# Altium integrated library Rectangular Connectors - Headers, Male Pins.IntLib: 13 symbols
Pins are listed as number, name and electrical type; pins without a type are passive.

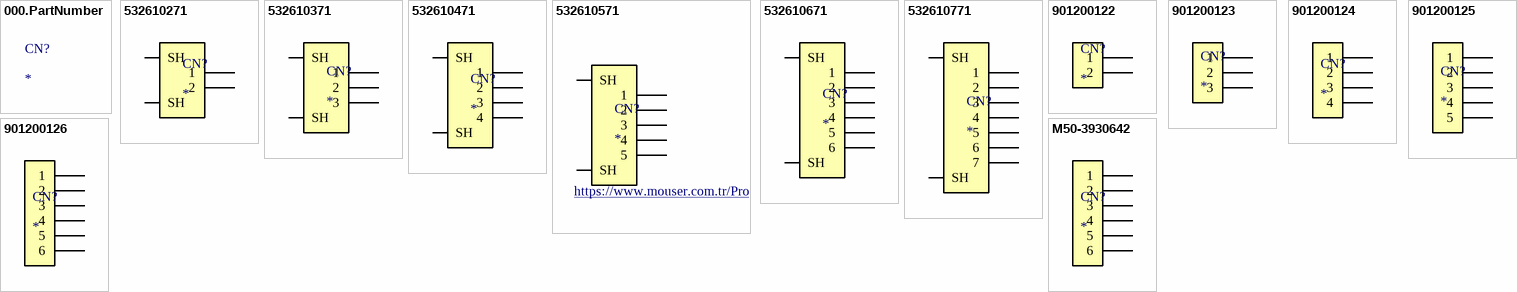
[diagram p0: symbols 000.PartNumber to M50-3930642]

## 000.PartNumber
designator CN?
Digikey Description; Manufacturer: *; Series: *; Package: *; Connector Type: *; Contact Type: *; Pitch - Mating: *; Number of Positions: *; Number of Rows: *; Row Spacing - Mating: *; Number of Positions Loaded: *; Style: *; Shrouding: *; Mounting Type: *; Termination: *; Fastening Type: *; Contact Length - Mating: *; Contact Length - Post: *; Overall Contact Length: *; Insulation Height: *; Contact Shape: *; Contact Finish - Mating: *; Contact Finish Thickness - Mating: *; Contact Finish - Post: *; Contact Material: *; Insulation Material: *; Features: *; Operating Temperature: *; Ingress Protection: *; Material Flammability Rating: *; Insulation Color: *; Current Rating (Amps): *; Voltage Rating: *; Mated Stacking Heights: *; Contact Finish Thickness - Post: *; Applications: *; Base Product Number: *; Ozdisan Link: *; Digikey Link: *; Farnell TR Link: *; Mouser Link: *

## 532610271
designator CN?
CONN HEADER SMD R/A 2POS 1.25MM; Manufacturer: Molex; Pitch - Mating: 0.049"" (1.25mm); Number of Positions: 2; Number of Positions Loaded: All; Style: Board to Cable/Wire; Shrouding: Shrouded - 4 Wall; Material Flammability Rating: UL94 V-0; Base Product Number: 053261; Series: PicoBlade 53261; Package: Tape & Reel (TR); Connector Type: Header; Contact Type: Male Blade; Number of Rows: 1; Row Spacing - Mating: -; Mounting Type: Surface Mount, Right Angle; Termination: Solder; Fastening Type: Detent Lock; Contact Length - Mating: -; Contact Length - Post: -; Overall Contact Length: -; Insulation Height: 0.134"" (3.40mm); Contact Shape: Rectangular; Contact Finish - Mating: Tin; Contact Finish Thickness - Mating: 39.4µin (1.00µm); Contact Finish - Post: Tin; Contact Material: Phosphor Bronze; Insulation Material: Polyamide (PA46), Nylon 4/6; Features: Solder Retention; Operating Temperature: -; Ingress Protection: -; Insulation Color: Natural; Current Rating (Amps): -; Voltage Rating: -; Mated Stacking Heights: -; Contact Finish Thickness - Post: -; Applications: Automotive, General Purpose, Industrial, Medical; Ozdisan Link: https://ozdisan.com/konnektor-ve-baglanti-elemanlari/konnektor-cesitleri/pcb-konnektorler/MOLEX-0532610271; Digikey Link: https://www.digikey.com/en/products/detail/molex/0532610271/699094; Farnell TR Link: https://tr.farnell.com/molex/53261-0271/connector-header-2pos-1row-1-25mm/dp/1125373?st=532610271; Mouser Link: https://www.mouser.com.tr/ProductDetail/Molex/53261-0271?qs=%252B72YyncTwW%252B8%252BBjraxGf3A%3D%3D
footprint MOLEX_0532610271
pins: 1, 2, SH1 SH, SH2 SH

## 532610371
designator CN?
CONN HEADER SMD R/A 3POS 1.25MM; Manufacturer: Molex; Pitch - Mating: 0.049"" (1.25mm); Number of Positions: 3; Number of Positions Loaded: All; Style: Board to Cable/Wire; Shrouding: Shrouded - 4 Wall; Material Flammability Rating: UL94 V-0; Base Product Number: 053261; Series: PicoBlade 53261; Package: Tape & Reel (TR); Connector Type: Header; Contact Type: Male Blade; Number of Rows: 1; Row Spacing - Mating: -; Mounting Type: Surface Mount, Right Angle; Termination: Solder; Fastening Type: Detent Lock; Contact Length - Mating: -; Contact Length - Post: -; Overall Contact Length: -; Insulation Height: 0.134"" (3.40mm); Contact Shape: Rectangular; Contact Finish - Mating: Tin; Contact Finish Thickness - Mating: 39.4µin (1.00µm); Contact Finish - Post: Tin; Contact Material: Phosphor Bronze; Insulation Material: Polyamide (PA46), Nylon 4/6; Features: Solder Retention; Operating Temperature: -; Ingress Protection: -; Insulation Color: Natural; Current Rating (Amps): -; Voltage Rating: -; Mated Stacking Heights: -; Contact Finish Thickness - Post: -; Applications: Automotive, General Purpose, Industrial, Medical; Ozdisan Link: -; Digikey Link: https://www.digikey.com/en/products/detail/molex/0532610371/699095; Farnell TR Link: https://tr.farnell.com/molex/53261-0371/connector-header-3pos-1row-1-25mm/dp/1125359?st=532610371; Mouser Link: https://www.mouser.com.tr/ProductDetail/Molex/53261-0371?qs=%2Fha2pyFadug25wospI25r8UbjZSmKyeLlxWYDzXkFYk%3D
footprint MOLEX_0532610371
pins: 1, 2, 3, SH1 SH, SH2 SH

## 532610471
designator CN?
CONN HEADER SMD R/A 4POS 1.25MM; Manufacturer: Molex; Pitch - Mating: 0.049"" (1.25mm); Number of Positions: 4; Number of Positions Loaded: All; Style: Board to Cable/Wire; Shrouding: Shrouded - 4 Wall; Material Flammability Rating: UL94 V-0; Base Product Number: 053261; Series: PicoBlade 53261; Package: Tape & Reel (TR); Connector Type: Header; Contact Type: Male Blade; Number of Rows: 1; Row Spacing - Mating: -; Mounting Type: Surface Mount, Right Angle; Termination: Solder; Fastening Type: Detent Lock; Contact Length - Mating: -; Contact Length - Post: -; Overall Contact Length: -; Insulation Height: 0.134"" (3.40mm); Contact Shape: Rectangular; Contact Finish - Mating: Tin; Contact Finish Thickness - Mating: 39.4µin (1.00µm); Contact Finish - Post: Tin; Contact Material: Phosphor Bronze; Insulation Material: Polyamide (PA46), Nylon 4/6; Features: Solder Retention; Operating Temperature: -; Ingress Protection: -; Insulation Color: Natural; Current Rating (Amps): -; Voltage Rating: -; Mated Stacking Heights: -; Contact Finish Thickness - Post: -; Applications: Automotive, General Purpose, Industrial, Medical; Ozdisan Link: https://ozdisan.com/konnektor-ve-baglanti-elemanlari/konnektor-cesitleri/pcb-konnektorler/MOLEX-0532610471; Digikey Link: https://www.digikey.com/en/products/detail/molex/0532610471/699096; Farnell TR Link: https://tr.farnell.com/molex/53261-0471/connector-header-4pos-1row-1-25mm/dp/1125374?st=532610471; Mouser Link: https://www.mouser.com.tr/ProductDetail/Molex/53261-0471?qs=%2Fha2pyFaduiW3EH2cFTYyAQ2dGPKcoevdQNTf0lddM4%3D
footprint MOLEX_0532610471
pins: 1, 2, 3, 4, SH1 SH, SH2 SH

## 532610571
designator CN?
CONN HEADER SMD R/A 5POS 1.25MM; Manufacturer: Molex; Pitch - Mating: 0.049"" (1.25mm); Number of Positions: 5; Number of Positions Loaded: All; Style: Board to Cable/Wire; Shrouding: Shrouded - 4 Wall; Material Flammability Rating: UL94 V-0; Base Product Number: 053261; Series: PicoBlade 53261; Package: Tape & Reel (TR); Connector Type: Header; Contact Type: Male Blade; Number of Rows: 1; Row Spacing - Mating: -; Mounting Type: Surface Mount, Right Angle; Termination: Solder; Fastening Type: Detent Lock; Contact Length - Mating: -; Contact Length - Post: -; Overall Contact Length: -; Insulation Height: 0.134"" (3.40mm); Contact Shape: Rectangular; Contact Finish - Mating: Tin; Contact Finish Thickness - Mating: 39.4µin (1.00µm); Contact Finish - Post: Tin; Contact Material: Phosphor Bronze; Insulation Material: Polyamide (PA46), Nylon 4/6; Features: Solder Retention; Operating Temperature: -; Ingress Protection: -; Insulation Color: Natural; Current Rating (Amps): -; Voltage Rating: -; Mated Stacking Heights: -; Contact Finish Thickness - Post: -; Applications: Automotive, General Purpose, Industrial, Medical; Ozdisan Link: -; Digikey Link: https://www.digikey.com/en/products/detail/molex/0532610571/699097?s=N4IgTCBcDaIAwFYDMYBsBGRB2dIC6AvkA; Farnell TR Link: https://tr.farnell.com/molex/53261-0571/connector-header-5pos-1row-1-25mm/dp/1125360?st=532610571; Mouser Link: https://www.mouser.com.tr/ProductDetail/Molex/53261-0571?qs=%2Fha2pyFadugcdD8YiSwUe8C5U9ZqIcPR5APA0XVHAg4%3D
footprint MOLEX_0532610571
pins: 1, 2, 3, 4, 5, SH1 SH, SH2 SH

## 532610671
designator CN?
CONN HEADER SMD R/A 6POS 1.25MM; Manufacturer: Molex; Pitch - Mating: 0.049"" (1.25mm); Number of Positions: 6; Number of Positions Loaded: All; Style: Board to Cable/Wire; Shrouding: Shrouded - 4 Wall; Material Flammability Rating: UL94 V-0; Base Product Number: 053261; Series: PicoBlade 53261; Package: Tape & Reel (TR); Connector Type: Header; Contact Type: Male Blade; Number of Rows: 1; Row Spacing - Mating: -; Mounting Type: Surface Mount, Right Angle; Termination: Solder; Fastening Type: Detent Lock; Contact Length - Mating: -; Contact Length - Post: -; Overall Contact Length: -; Insulation Height: 0.134"" (3.40mm); Contact Shape: Rectangular; Contact Finish - Mating: Tin; Contact Finish Thickness - Mating: 39.4µin (1.00µm); Contact Finish - Post: Tin; Contact Material: Phosphor Bronze; Insulation Material: Polyamide (PA46), Nylon 4/6; Features: Solder Retention; Operating Temperature: -; Ingress Protection: -; Insulation Color: Natural; Current Rating (Amps): -; Voltage Rating: -; Mated Stacking Heights: -; Contact Finish Thickness - Post: -; Applications: Automotive, General Purpose, Industrial, Medical; Ozdisan Link: https://ozdisan.com/konnektor-ve-baglanti-elemanlari/konnektor-cesitleri/pcb-konnektorler/MOLEX-0532610671; Digikey Link: https://www.digikey.com/en/products/detail/molex/0532610671/699098; Farnell TR Link: https://tr.farnell.com/molex/53261-0671/connector-header-6pos-1row-1-25mm/dp/1125375?st=532610671; Mouser Link: https://www.mouser.com.tr/ProductDetail/Molex/53261-0671?qs=%2Fha2pyFaduhtQv4415DdvxusbWS7EpSPDupFkLIOYQk%3D
footprint MOLEX_0532610671
pins: 1, 2, 3, 4, 5, 6, SH1 SH, SH2 SH

## 532610771
designator CN?
CONN HEADER SMD R/A 7POS 1.25MM; Manufacturer: Molex; Pitch - Mating: 0.049"" (1.25mm); Number of Positions: 7; Number of Positions Loaded: All; Style: Board to Cable/Wire; Shrouding: Shrouded - 4 Wall; Material Flammability Rating: UL94 V-0; Base Product Number: 053261; Series: PicoBlade 53261; Package: Tape & Reel (TR); Connector Type: Header; Contact Type: Male Blade; Number of Rows: 1; Row Spacing - Mating: -; Mounting Type: Surface Mount, Right Angle; Termination: Solder; Fastening Type: Detent Lock; Contact Length - Mating: -; Contact Length - Post: -; Overall Contact Length: -; Insulation Height: 0.134"" (3.40mm); Contact Shape: Rectangular; Contact Finish - Mating: Tin; Contact Finish Thickness - Mating: 39.4µin (1.00µm); Contact Finish - Post: Tin; Contact Material: Phosphor Bronze; Insulation Material: Polyamide (PA46), Nylon 4/6; Features: Solder Retention; Operating Temperature: -; Ingress Protection: -; Insulation Color: Natural; Current Rating (Amps): -; Voltage Rating: -; Mated Stacking Heights: -; Contact Finish Thickness - Post: -; Applications: Automotive, General Purpose, Industrial, Medical; Ozdisan Link: -; Digikey Link: https://www.digikey.com/en/products/detail/molex/0532610771/699099; Farnell TR Link: https://tr.farnell.com/molex/53261-0771/connector-header-7pos-1row-1-25mm/dp/3759148?st=532610771; Mouser Link: https://www.mouser.com.tr/ProductDetail/Molex/53261-0771?qs=%2Fha2pyFadugsCwNxBg3%2FRHDCLTseGEMg8wdDzDUpq7U%3D
footprint MOLEX_0532610771
pins: 1, 2, 3, 4, 5, 6, 7, SH1 SH, SH2 SH

## 901200122
designator CN?
CONN HEADER VERT 2POS 2.54MM; Manufacturer: Molex; Connector Type: Header, Breakaway; Pitch - Mating: 0.100" (2.54mm); Number of Positions: 2; Number of Positions Loaded: All; Style: Board to Board or Cable; Shrouding: Unshrouded; Contact Length - Mating: 0.266" (6.75mm); Contact Length - Post: 0.114" (2.90mm); Overall Contact Length: 0.478" (12.15mm); Material Flammability Rating: UL94 V-0; Series: C-Grid III 90120; Package: Bulk; Contact Type: Male Pin; Number of Rows: 1; Row Spacing - Mating: -; Mounting Type: Through Hole; Termination: Solder; Fastening Type: Push-Pull; Insulation Height: 0.098" (2.50mm); Contact Shape: Square; Contact Finish - Mating: Tin; Contact Finish Thickness - Mating: 118.1µin (3.00µm); Contact Finish - Post: Tin; Contact Material: Brass; Insulation Material: Polyester, Glass Filled; Features: -; Operating Temperature: -55°C ~ 125°C; Ingress Protection: -; Insulation Color: Black; Current Rating (Amps): -; Voltage Rating: -; Mated Stacking Heights: -; Contact Finish Thickness - Post: -; Applications: Automotive, General Purpose; Base Product Number: -; Ozdisan Link: https://ozdisan.com/konnektor-ve-baglanti-elemanlari/header-konnektorler/pin-headerlar/MOLEX-901200122; Digikey Link: https://www.digikey.com/en/products/detail/molex/0901200122/760787?s=N4IgTCBcDaIJwAYCMYHLBAugXyA; Farnell TR Link: https://tr.farnell.com/molex/90120-0122/connector-header-2pos-1row-2-54mm/dp/3051512?ost=901200122; Mouser Link: https://www.mouser.com.tr/ProductDetail/Molex/90120-0122?qs=P7cO%252B%252BFDLzT4U5Vb%252ByGouA%3D%3D
footprint MOLEX_901200122
pins: 1, 2

## 901200123
designator CN?
CONN HEADER VERT 3POS 2.54MM; Manufacturer: Molex; Connector Type: Header, Breakaway; Pitch - Mating: 0.100" (2.54mm); Number of Positions: 3; Number of Positions Loaded: All; Style: Board to Board or Cable; Shrouding: Unshrouded; Contact Length - Mating: 0.266" (6.75mm); Contact Length - Post: 0.114" (2.90mm); Overall Contact Length: 0.478" (12.15mm); Material Flammability Rating: UL94 V-0; Series: C-Grid III 90120; Package: Bulk; Contact Type: Male Pin; Number of Rows: 1; Row Spacing - Mating: -; Mounting Type: Through Hole; Termination: Solder; Fastening Type: Push-Pull; Insulation Height: 0.098" (2.50mm); Contact Shape: Square; Contact Finish - Mating: Tin; Contact Finish Thickness - Mating: 118.1µin (3.00µm); Contact Finish - Post: Tin; Contact Material: Brass; Insulation Material: Polyester, Glass Filled; Features: -; Operating Temperature: -55°C ~ 125°C; Ingress Protection: -; Insulation Color: Black; Current Rating (Amps): -; Voltage Rating: -; Mated Stacking Heights: -; Contact Finish Thickness - Post: -; Applications: Automotive, General Purpose; Base Product Number: -; Ozdisan Link: -; Digikey Link: https://www.digikey.com/en/products/detail/molex/0901200123/760788; Farnell TR Link: https://tr.farnell.com/molex/90120-0123/btb-conn-header-3pos-1row-2-54mm/dp/2781972?ost=901200123; Mouser Link: https://www.mouser.com.tr/ProductDetail/Molex/90120-0123?qs=%2Fha2pyFadugGrTKTN72MHaF%252Bdp9hYqlhobIGt%2FcWYfE%3D
footprint MOLEX_901200123
pins: 1, 2, 3

## 901200124
designator CN?
CONN HEADER VERT 4POS 2.54MM; Manufacturer: Molex; Connector Type: Header, Breakaway; Pitch - Mating: 0.100" (2.54mm); Number of Positions: 4; Number of Positions Loaded: All; Style: Board to Board or Cable; Shrouding: Unshrouded; Contact Length - Mating: 0.266" (6.75mm); Contact Length - Post: 0.114" (2.90mm); Overall Contact Length: 0.478" (12.15mm); Material Flammability Rating: UL94 V-0; Series: C-Grid III 90120; Package: Bulk; Contact Type: Male Pin; Number of Rows: 1; Row Spacing - Mating: -; Mounting Type: Through Hole; Termination: Solder; Fastening Type: Push-Pull; Insulation Height: 0.098" (2.50mm); Contact Shape: Square; Contact Finish - Mating: Tin; Contact Finish Thickness - Mating: 118.1µin (3.00µm); Contact Finish - Post: Tin; Contact Material: Brass; Insulation Material: Polyester, Glass Filled; Features: -; Operating Temperature: -55°C ~ 125°C; Ingress Protection: -; Insulation Color: Black; Current Rating (Amps): -; Voltage Rating: -; Mated Stacking Heights: -; Contact Finish Thickness - Post: -; Applications: Automotive, General Purpose; Base Product Number: -; Ozdisan Link: https://ozdisan.com/Product/Detail/336381/MOLEX-0901200124; Digikey Link: https://www.digikey.com/en/products/detail/molex/0901200124/760789?s=N4IgTCBcDaIAwE44EYxxWALCAugXyA; Farnell TR Link: https://tr.farnell.com/molex/90120-0124/btb-conn-header-4pos-1row-2-54mm/dp/3107372?st=901200124; Mouser Link: https://www.mouser.com.tr/ProductDetail/Molex/90120-0124?qs=%2Fha2pyFadugGrTKTN72MHZ8Fd3xvCnrnlY1gu48z8dc%3D
footprint MOLEX_901200124
pins: 1, 2, 3, 4

## 901200125
designator CN?
CONN HEADER VERT 5POS 2.54MM; Manufacturer: Molex; Connector Type: Header, Breakaway; Pitch - Mating: 0.100" (2.54mm); Number of Positions: 5; Number of Positions Loaded: All; Style: Board to Board or Cable; Shrouding: Unshrouded; Contact Length - Mating: 0.266" (6.75mm); Contact Length - Post: 0.114" (2.90mm); Overall Contact Length: 0.478" (12.15mm); Material Flammability Rating: UL94 V-0; Series: C-Grid III 90120; Package: Bulk; Contact Type: Male Pin; Number of Rows: 1; Row Spacing - Mating: -; Mounting Type: Through Hole; Termination: Solder; Fastening Type: Push-Pull; Insulation Height: 0.098" (2.50mm); Contact Shape: Square; Contact Finish - Mating: Tin; Contact Finish Thickness - Mating: 118.1µin (3.00µm); Contact Finish - Post: Tin; Contact Material: Brass; Insulation Material: Polyester, Glass Filled; Features: -; Operating Temperature: -55°C ~ 125°C; Ingress Protection: -; Insulation Color: Black; Current Rating (Amps): -; Voltage Rating: -; Mated Stacking Heights: -; Contact Finish Thickness - Post: -; Applications: Automotive, General Purpose; Base Product Number: -; Ozdisan Link: -; Digikey Link: https://www.digikey.com/en/products/detail/molex/0901200125/760790?s=N4IgTCBcDaIJwAYCMYHLAVhAXQL5A; Farnell TR Link: -; Mouser Link: https://www.mouser.com.tr/ProductDetail/Molex/90120-0125?qs=%2Fha2pyFadugGrTKTN72MHfb4NVEAx1%2FermG%2FJSU%252BSmg%3D
footprint MOLEX_901200125
pins: 1, 2, 3, 4, 5

## 901200126
designator CN?
CONN HEADER VERT 6POS 2.54MM; Manufacturer: Molex; Connector Type: Header, Breakaway; Pitch - Mating: 0.100" (2.54mm); Number of Positions: 6; Number of Positions Loaded: All; Style: Board to Board or Cable; Shrouding: Unshrouded; Contact Length - Mating: 0.266" (6.75mm); Contact Length - Post: 0.114" (2.90mm); Overall Contact Length: 0.478" (12.15mm); Material Flammability Rating: UL94 V-0; Series: C-Grid III 90120; Package: Bulk; Contact Type: Male Pin; Number of Rows: 1; Row Spacing - Mating: -; Mounting Type: Through Hole; Termination: Solder; Fastening Type: Push-Pull; Insulation Height: 0.098" (2.50mm); Contact Shape: Square; Contact Finish - Mating: Tin; Contact Finish Thickness - Mating: 118.1µin (3.00µm); Contact Finish - Post: Tin; Contact Material: Brass; Insulation Material: Polyester, Glass Filled; Features: -; Operating Temperature: -55°C ~ 125°C; Ingress Protection: -; Insulation Color: Black; Current Rating (Amps): -; Voltage Rating: -; Mated Stacking Heights: -; Contact Finish Thickness - Post: -; Applications: Automotive, General Purpose; Base Product Number: -; Ozdisan Link: -; Digikey Link: https://www.digikey.com/en/products/detail/molex/0901200126/760791?s=N4IgTCBcDaIAwE44EYxxWAbCAugXyA; Farnell TR Link: https://tr.farnell.com/molex/90120-0126/btb-conn-header-6pos-1row-2-54mm/dp/2313717?ost=901200126; Mouser Link: https://www.mouser.com.tr/ProductDetail/Molex/90120-0126?qs=%2Fha2pyFadugGrTKTN72MHbXtvCmN%252BYMMMHXxZAElHG0%3D
footprint MOLEX_901200126
pins: 1, 2, 3, 4, 5, 6

## M50-3930642
designator CN?
CONN HEADER R/A 6POS 1.27MM; Manufacturer: Harwin Inc.; Pitch - Mating: 0.050" (1.27mm); Number of Positions: 6; Number of Positions Loaded: All; Style: Board to Board or Cable; Shrouding: Unshrouded; Contact Length - Mating: 0.157" (4.00mm); Contact Length - Post: 0.094" (2.40mm); Material Flammability Rating: UL94 V-0; Current Rating (Amps): 1A per Contact; Base Product Number: M50-393; Series: Archer M50; Package: Bulk; Connector Type: Header; Contact Type: Male Pin; Number of Rows: 1; Row Spacing - Mating: -; Mounting Type: Through Hole, Right Angle; Termination: Solder; Fastening Type: Push-Pull; Overall Contact Length: -; Insulation Height: 0.039" (1.00mm); Contact Shape: Square; Contact Finish - Mating: Gold; Contact Finish Thickness - Mating: -; Contact Finish - Post: Tin; Contact Material: Brass; Insulation Material: Polyamide (PA9T), Nylon 9T; Features: -; Operating Temperature: -40°C ~ 105°C; Ingress Protection: -; Insulation Color: Black; Voltage Rating: -; Mated Stacking Heights: -; Contact Finish Thickness - Post: 98.4µin (2.50µm); Applications: -; Ozdisan Link: -; Digikey Link: https://www.digikey.com/en/products/detail/harwin-inc/M50-3930642/7044033; Farnell TR Link: https://tr.farnell.com/harwin/m50-3930642/btb-conn-header-6pos-1rows-1-27mm/dp/3226061?ost=m50-3930642; Mouser Link: https://www.mouser.com.tr/ProductDetail/Harwin/M50-3930642?qs=%2Fha2pyFadujbCHOuom%252BGQOZMC%252BvLaxrUZWeqLxvVtu1supBbLmE%252Bdw%3D%3D
footprint HARWIN_M50-3930642
pins: 1, 2, 3, 4, 5, 6